# Altium footprint library Ferrite Bead.PcbLib: 7 footprints
Each footprint in its own frame and in the unit in brackets; x right, y up, seen from the top. Pads: shape width x height; smd on the part's side, far side on the other; paste and mask are expansions set on the pad; w line width, h text height; cw(c..) or ccw(c..) is an arc to the next point about the centre after c.
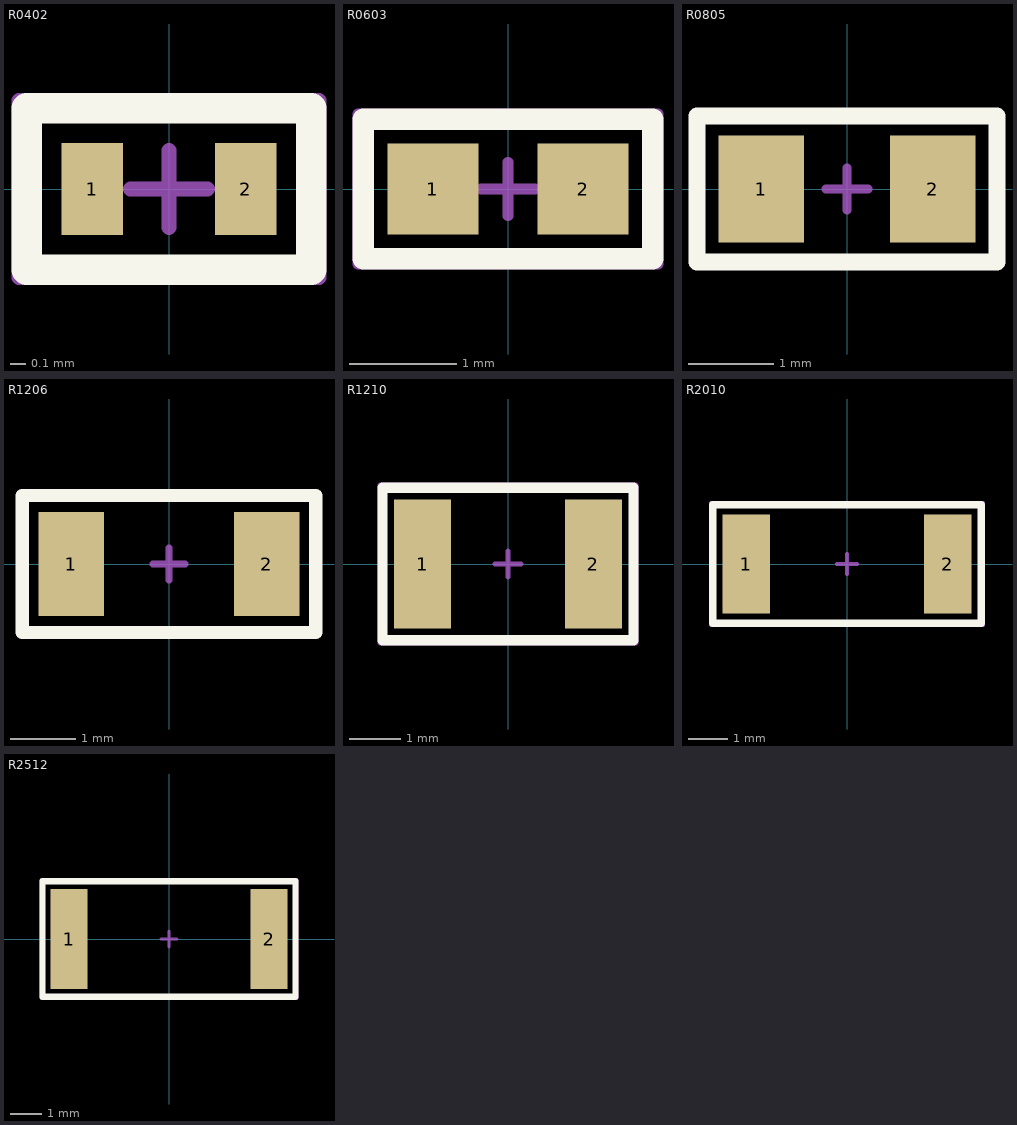
[diagram p0: the footprints below, top view; thin cyan lines are the x and y axes]

## R0402 [mm]
pads (2):
  rect 0.4x0.6 smd: 1(-0.5,0) 2(0.5,0)
Top Overlay:
  lines w0.2: -0.925,-0.525 0.925,-0.525 0.925,0.525 -0.925,0.525 -0.925,-0.525
Border:
  lines w0.1: -0.25,0 0.25,0 ; 0,-0.25 0,0.25 ; -0.975,-0.575 0.975,-0.575 0.975,0.575 -0.975,0.575 -0.975,-0.575
3D body "User Library-R SMD 0402.STEP": height 0.35, standoff 0, extent -0.532,-0.25 0.468,0.25

## R0603 [mm]
pads (2):
  rect 0.85x0.85 smd: 1(-0.7,0) 2(0.7,0)
Top Overlay:
  lines w0.2: -1.35,-0.65 1.35,-0.65 1.35,0.65 -1.35,0.65 -1.35,-0.65
Border:
  lines w0.1: -0.25,0 0.25,0 ; 0,-0.25 0,0.25 ; -1.4,-0.7 -1.4,0.7 1.4,0.7 1.4,-0.7 -1.4,-0.7
3D body "User Library-SMD RESISTOR-1.STEP": height 0.45, standoff -0.01, extent -0.8,-0.4 0.8,0.4

## R0805 [mm]
pads (2):
  rect 1x1.25 smd: 1(-1,0) 2(1,0)
Top Overlay:
  lines w0.2: -1.75,-0.85 -1.75,0.85 1.75,0.85 1.75,-0.85 -1.75,-0.85
Border:
  lines w0.1: -0.25,0 0.25,0 ; 0,-0.25 0,0.25 ; -1.75,-0.85 -1.75,0.85 1.75,0.85 1.75,-0.85 -1.75,-0.85
3D body "Ферритовая бусина 0805.stp": height 1.2, standoff 0, extent -1,-0.45 1,0.45

## R1206 [mm]
pads (2):
  rect 1x1.6 smd: 1(-1.5,0) 2(1.5,0)
Top Overlay:
  lines w0.2: -2.25,-1.05 -2.25,1.05 2.25,1.05 2.25,-1.05 -2.25,-1.05
Border:
  lines w0.1: -0.25,0 0.25,0 ; 0,-0.25 0,0.25 ; -2.25,-1.05 -2.25,1.05 2.25,1.05 2.25,-1 2.2,-1.05 -2.25,-1.05
3D body "User Library-R_1206.STEP": height 0.6, standoff 0, extent -1.6,-0.8 1.6,0.8

## R1210 [mm]
pads (2):
  rect 1.1x2.5 smd: 1(-1.65,0) 2(1.65,0)
Top Overlay:
  lines w0.2: -2.425,-1.475 2.425,-1.475 2.425,1.475 -2.425,1.475 -2.425,-1.475
Border:
  lines w0.1: -0.25,0 0.25,0 ; 0,-0.25 0,0.25 ; -2.475,-1.525 2.475,-1.525 2.475,1.525 -2.475,1.525 -2.475,-1.525
3D body "User Library-SMD RESISTOR-1.STEP": height 0.6, standoff 0, extent -1.6,-1.25 1.6,1.25

## R2010 [mm]
pads (2):
  rect 1.2x2.5 smd: 1(-2.55,0) 2(2.55,0)
Top Overlay:
  lines w0.2: -3.4,-1.5 -3.4,1.5 3.4,1.5 3.4,-1.5 -3.4,-1.5
Border:
  lines w0.1: -0.25,0 0.25,0 ; 0,-0.25 0,0.25 ; -3.45,-1.55 -3.45,1.55 3.45,1.55 3.45,-1.55 -3.45,-1.55
3D body "User Library-SMD RESISTOR-1.STEP": height 0.6, standoff 0, extent -2.5,-1.25 2.5,1.25

## R2512 [mm]
pads (2):
  rect 1.2x3.2 smd: 1(-3.2,0) 2(3.2,0)
Top Overlay:
  lines w0.2: -4.05,-1.85 -4.05,1.85 4.05,1.85 4.05,-1.85 -4.05,-1.85
Border:
  lines w0.1: -0.25,0 0.25,0 ; 0,-0.25 0,0.25 ; -4.1,-1.9 -4.1,1.9 4.1,1.9 4.1,-1.9 -4.1,-1.9
3D body "User Library-SMD RESISTOR-1.STEP": height 0.6, standoff 0, extent -3.2,-1.6 3.2,1.6